# Altium integrated library MX.IntLib: 16 symbols
Pins are listed as number, name and electrical type; pins without a type are passive.

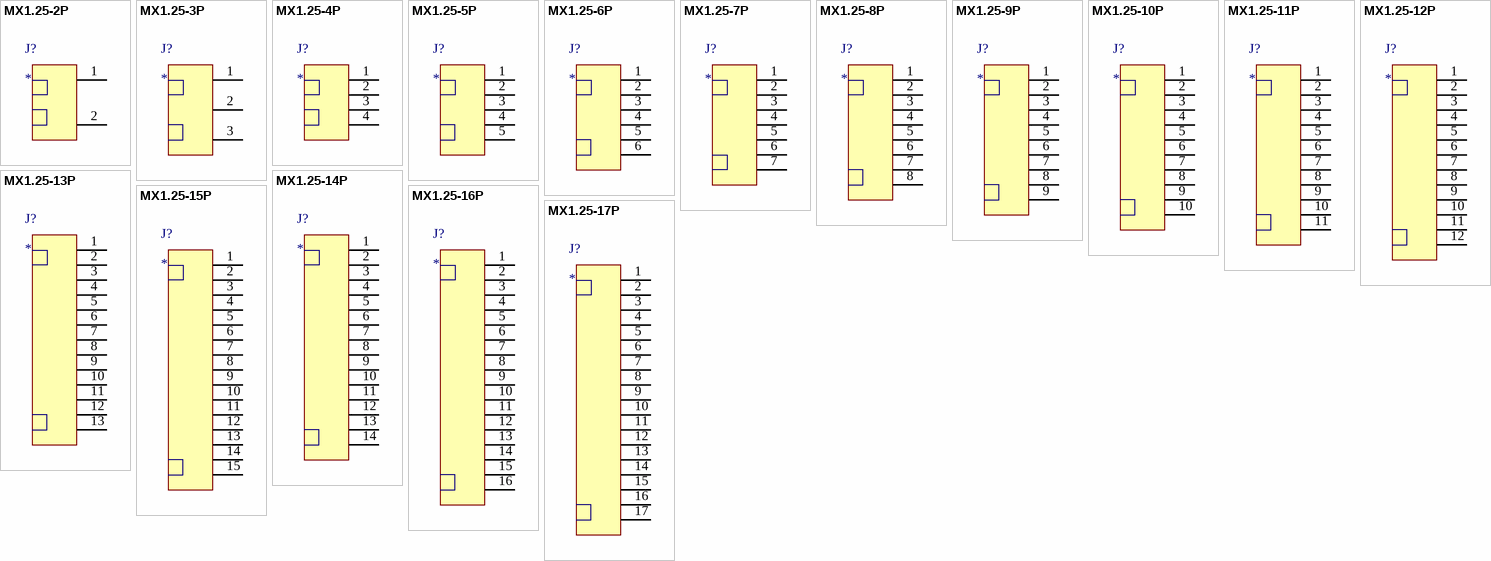
[diagram p0: symbols MX1.25-2P to MX1.25-17P]

## MX1.25-2P
designator J?
MX1.25连接器母座
footprint MX1.25-2P
footprint MX1.25S-2P
footprint MX1.25W-2P
footprint MX1.25WS-2P
pins: 1, 2

## MX1.25-3P
designator J?
MX1.25连接器母座
footprint MX1.25-3P
footprint MX1.25S-3P
footprint MX1.25W-3P
footprint MX1.25WS-3P
pins: 1, 2, 3

## MX1.25-4P
designator J?
MX1.25连接器母座
footprint MX1.25-4P
footprint MX1.25S-4P
footprint MX1.25W-4P
footprint MX1.25WS-4P
pins: 1, 2, 3, 4

## MX1.25-5P
designator J?
MX1.25连接器母座
footprint MX1.25W-5P
footprint MX1.25WS-5P
footprint MX1.25S-5P
footprint MX1.25-5P
pins: 1, 2, 3, 4, 5

## MX1.25-6P
designator J?
MX1.25连接器母座
footprint MX1.25-6P
footprint MX1.25S-6P
footprint MX1.25W-6P
footprint MX1.25WS-6P
pins: 1, 2, 3, 4, 5, 6

## MX1.25-7P
designator J?
MX1.25连接器母座
footprint MX1.25-7P
footprint MX1.25S-7P
footprint MX1.25W-7P
footprint MX1.25WS-7P
pins: 1, 2, 3, 4, 5, 6, 7

## MX1.25-8P
designator J?
MX1.25连接器母座
footprint MX1.25-8P
footprint MX1.25S-8P
footprint MX1.25W-8P
footprint MX1.25WS-8P
pins: 1, 2, 3, 4, 5, 6, 7, 8

## MX1.25-9P
designator J?
MX1.25连接器母座
footprint MX1.25-9P
footprint MX1.25S-9P
footprint MX1.25W-9P
footprint MX1.25WS-9P
pins: 1, 2, 3, 4, 5, 6, 7, 8, 9

## MX1.25-10P
designator J?
MX1.25连接器母座
footprint MX1.25-10P
footprint MX1.25S-10P
footprint MX1.25W-10P
footprint MX1.25WS-10P
pins: 1, 2, 3, 4, 5, 6, 7, 8, 9, 10

## MX1.25-11P
designator J?
MX1.25连接器母座
footprint MX1.25-11P
footprint MX1.25W-11P
footprint MX1.25S-11P
footprint MX1.25WS-11P
pins: 1, 2, 3, 4, 5, 6, 7, 8, 9, 10, 11

## MX1.25-12P
designator J?
MX1.25连接器母座
footprint MX1.25-12P
footprint MX1.25S-12P
footprint MX1.25W-12P
footprint MX1.25W-12P
pins: 1, 2, 3, 4, 5, 6, 7, 8, 9, 10, 11, 12

## MX1.25-13P
designator J?
MX1.25连接器母座
footprint MX1.25-13P
footprint MX1.25S-13P
footprint MX1.25W-13P
footprint MX1.25WS-13P
pins: 1, 2, 3, 4, 5, 6, 7, 8, 9, 10, 11, 12, 13

## MX1.25-14P
designator J?
MX1.25连接器母座
footprint MX1.25S-14P
footprint MX1.25W-14P
footprint MX1.25WS-14P
footprint MX1.25-14P
pins: 1, 2, 3, 4, 5, 6, 7, 8, 9, 10, 11, 12, 13, 14

## MX1.25-15P
designator J?
MX1.25连接器母座
footprint MX1.25-15P
footprint MX1.25S-15P
footprint MX1.25WS-15P
footprint MX1.25W-15P
pins: 1, 2, 3, 4, 5, 6, 7, 8, 9, 10, 11, 12, 13, 14, 15

## MX1.25-16P
designator J?
MX1.25连接器母座
footprint MX1.25-16P
footprint MX1.25S-16P
footprint MX1.25WS-16P
footprint MX1.25W-16P
pins: 1, 2, 3, 4, 5, 6, 7, 8, 9, 10, 11, 12, 13, 14, 15, 16

## MX1.25-17P
designator J?
MX1.25连接器母座
footprint MX1.25S-17P
footprint MX1.25W-17P
footprint MX1.25-17P
footprint MX1.25WS-17P
pins: 1, 2, 3, 4, 5, 6, 7, 8, 9, 10, 11, 12, 13, 14, 15, 16, 17